# Altium schematic symbol library Schlib1.SchLib: 9 symbols
Pins are listed as number, name and electrical type; pins without a type are passive.

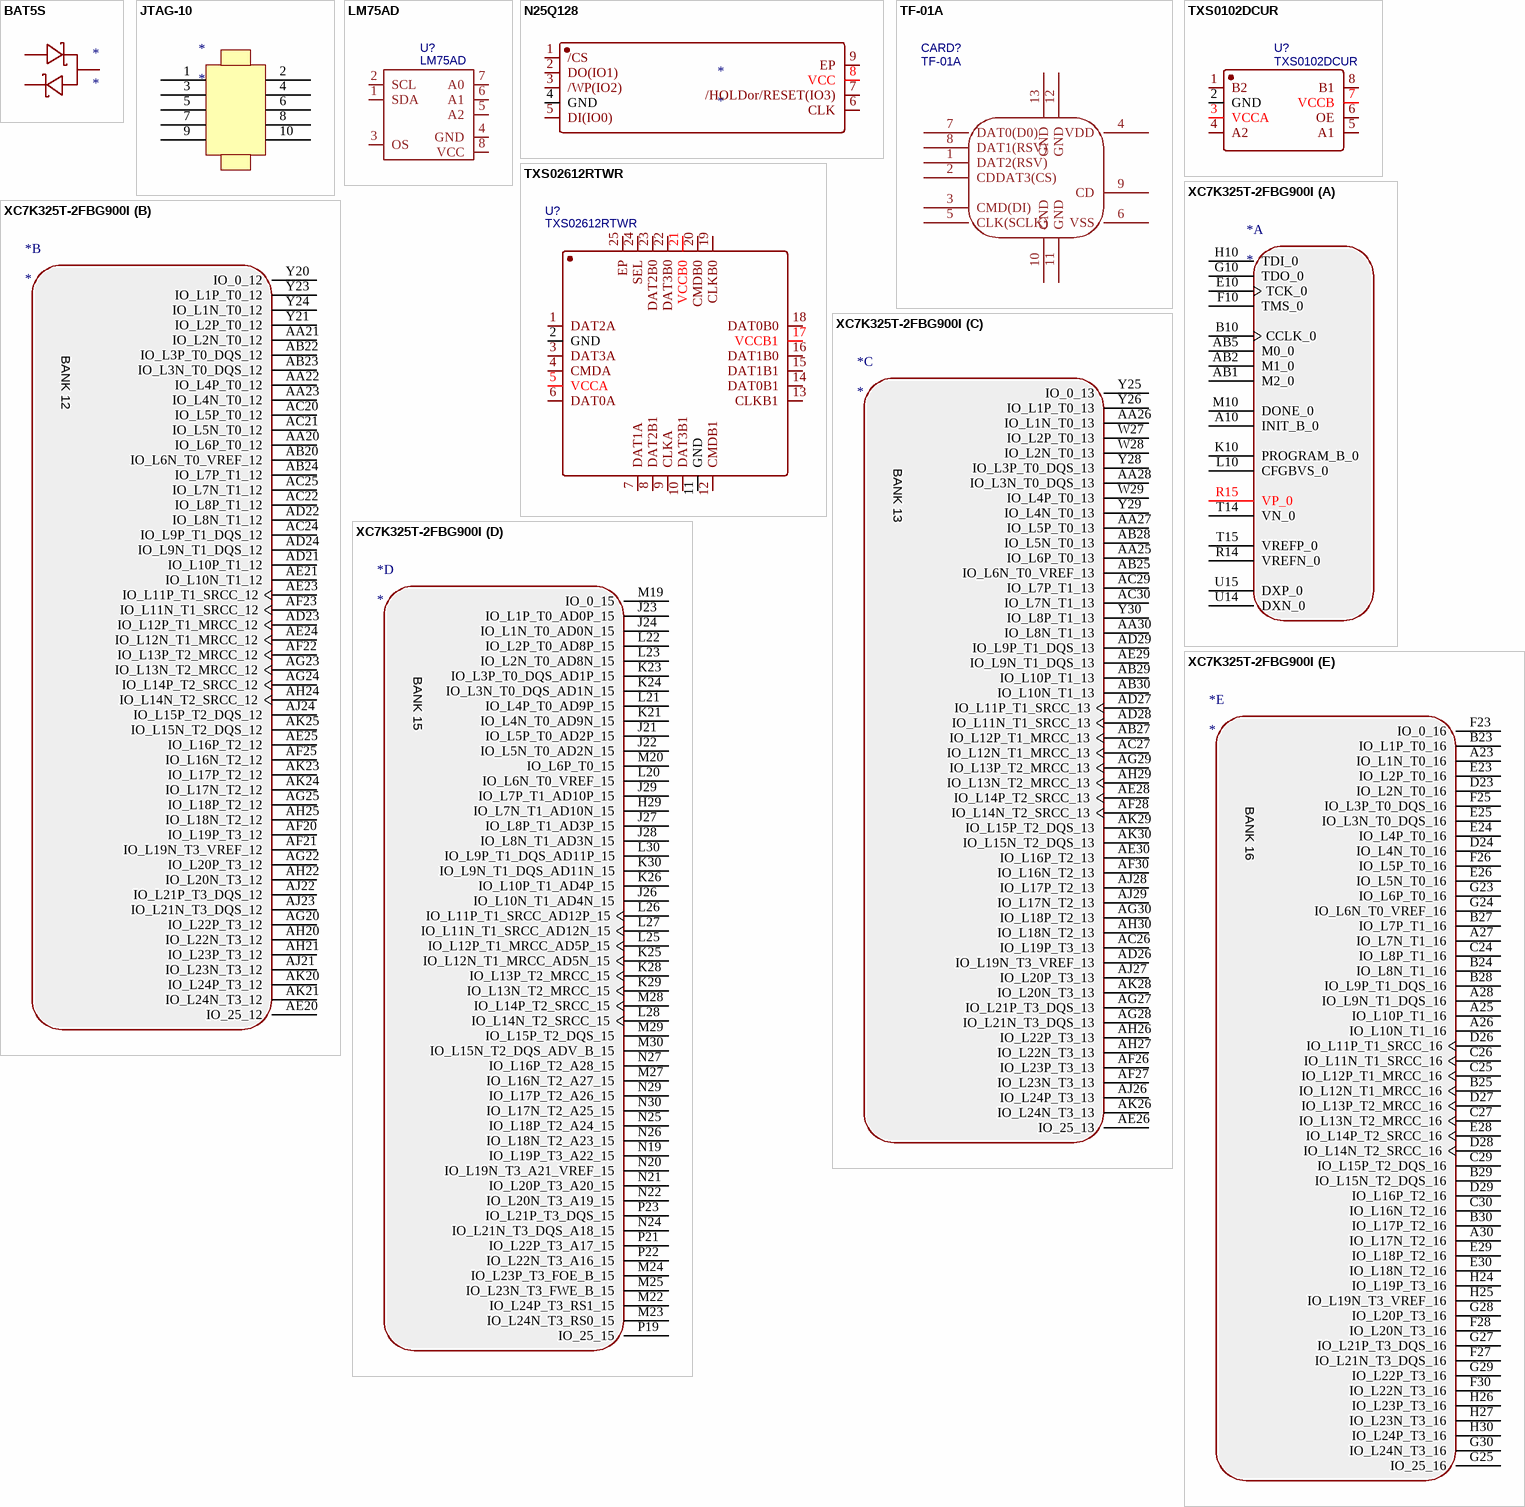
[diagram p0: symbols BAT5S to XC7K325T-2FBG900I]

## BAT5S
designator *
pins: 1 A1, 2 K2, 3 A

## JTAG-10
designator *
pins: 1, 2, 3, 4, 5, 6, 7, 8, 9, 10

## LM75AD
designator U?
BOM_Manufacturer: NXP; SMT Type: Extend; BOM_Supplier: LCSC; BOM_Manufacturer Part: LM75AD; image: //image.lceda.cn/szlcsc/C7963.jpg; BOM_Supplier Part: C7963; BOM_LCSC Assembly: Yes; spicePre: U; spiceSymbolName: LM75AD
footprint SOIC-8_150MIL
pins: 1 SDA, 2 SCL, 3 OS, 4 GND, 5 A2, 6 A1, 7 A0, 8 VCC

## N25Q128
designator *
pins: 1 /CS, 2 DO(IO1), 3 /WP(IO2), 4 GND, 5 DI(IO0), 6 CLK, 7 /HOLDor/RESET(IO3), 8 VCC, 9 EP

## TF-01A
designator CARD?
BOM_Manufacturer: HRO; BOM_Supplier: LCSC; BOM_Manufacturer Part: TF-01A; BOM_Supplier Part: C91145; spicePre: C; spiceSymbolName: TF-01A
footprint TF-SMD_TF-01A
pins: 1 DAT2(RSV), 2 CDDAT3(CS), 3 CMD(DI), 4 VDD, 5 CLK(SCLK), 6 VSS, 7 DAT0(D0), 8 DAT1(RSV), 9 CD, 10 GND, 11 GND, 12 GND, 13 GND

## TXS0102DCUR
designator U?
BOM_Manufacturer: TI; BOM_Supplier: LCSC; BOM_Manufacturer Part: TXS0102DCUR; image: //image.lceda.cn/szlcsc/C53434.jpg; BOM_Supplier Part: C53434; spicePre: U; spiceSymbolName: TXS0102DCUR
footprint US-8_L2.4-W2.1-P0.50-LS3.2-BR
pins: 1 B2, 2 GND, 3 VCCA, 4 A2, 5 A1, 6 OE, 7 VCCB, 8 B1

## TXS02612RTWR
designator U?
BOM_Manufacturer: Texas Instruments; Contributor: LCSC; BOM_Supplier: LCSC; BOM_Supplier Part: C140276; BOM_Manufacturer Part: TXS02612RTWR; spicePre: U; spiceSymbolName: TXS02612RTWR
footprint WQFN-24_L4.0-W4.0-P0.50-BL-EP
pins: 1 DAT2A, 2 GND, 3 DAT3A, 4 CMDA, 5 VCCA, 6 DAT0A, 7 DAT1A, 8 DAT2B1, 9 CLKA, 10 DAT3B1, 11 GND, 12 CMDB1, 13 CLKB1, 14 DAT0B1, 15 DAT1B1, 16 DAT1B0, 17 VCCB1, 18 DAT0B0, 19 CLKB0, 20 CMDB0, 21 VCCB0, 22 DAT3B0, 23 DAT2B0, 24 SEL, 25 EP

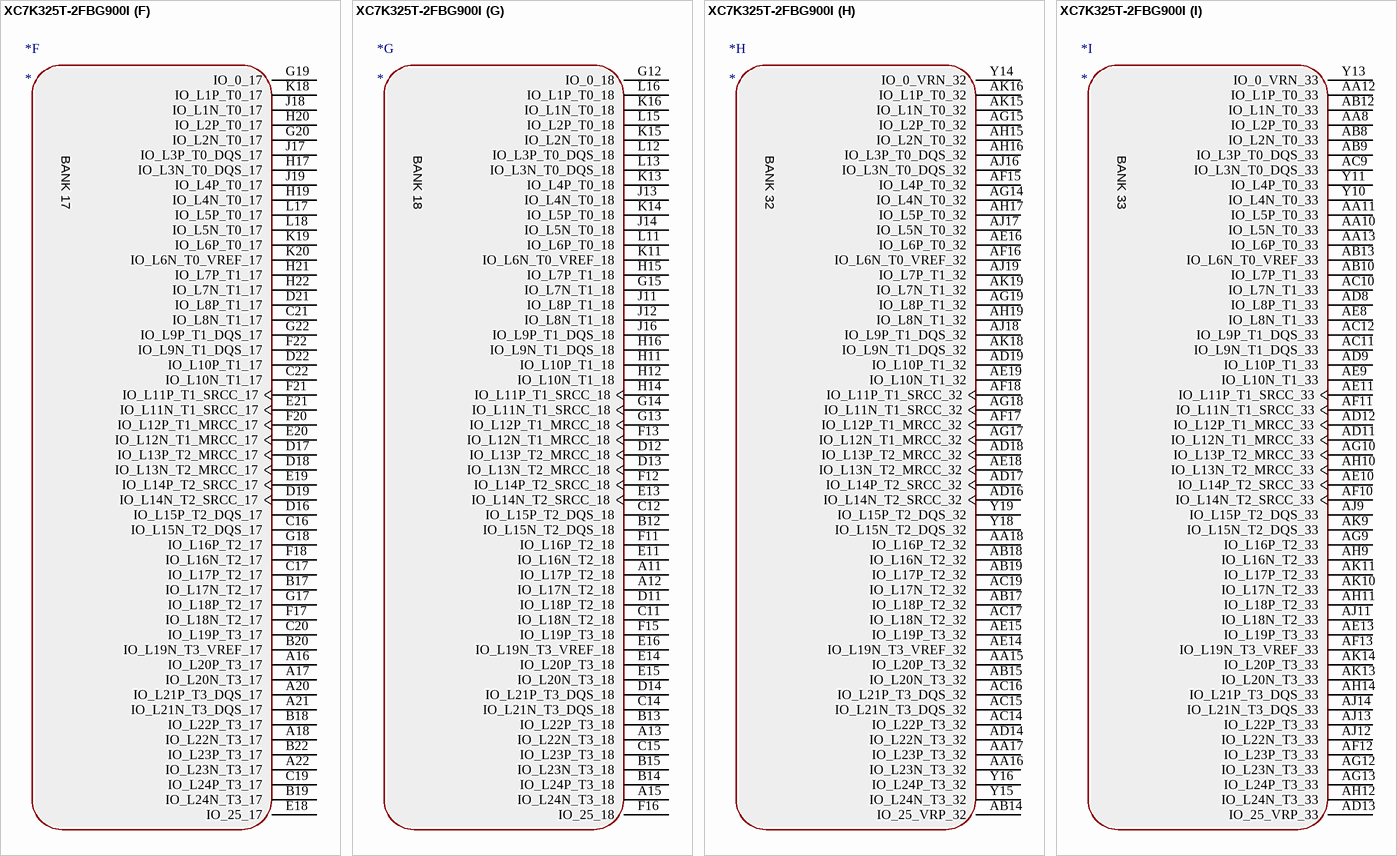
[diagram p1: symbol XC7K325T-2FBG900I]

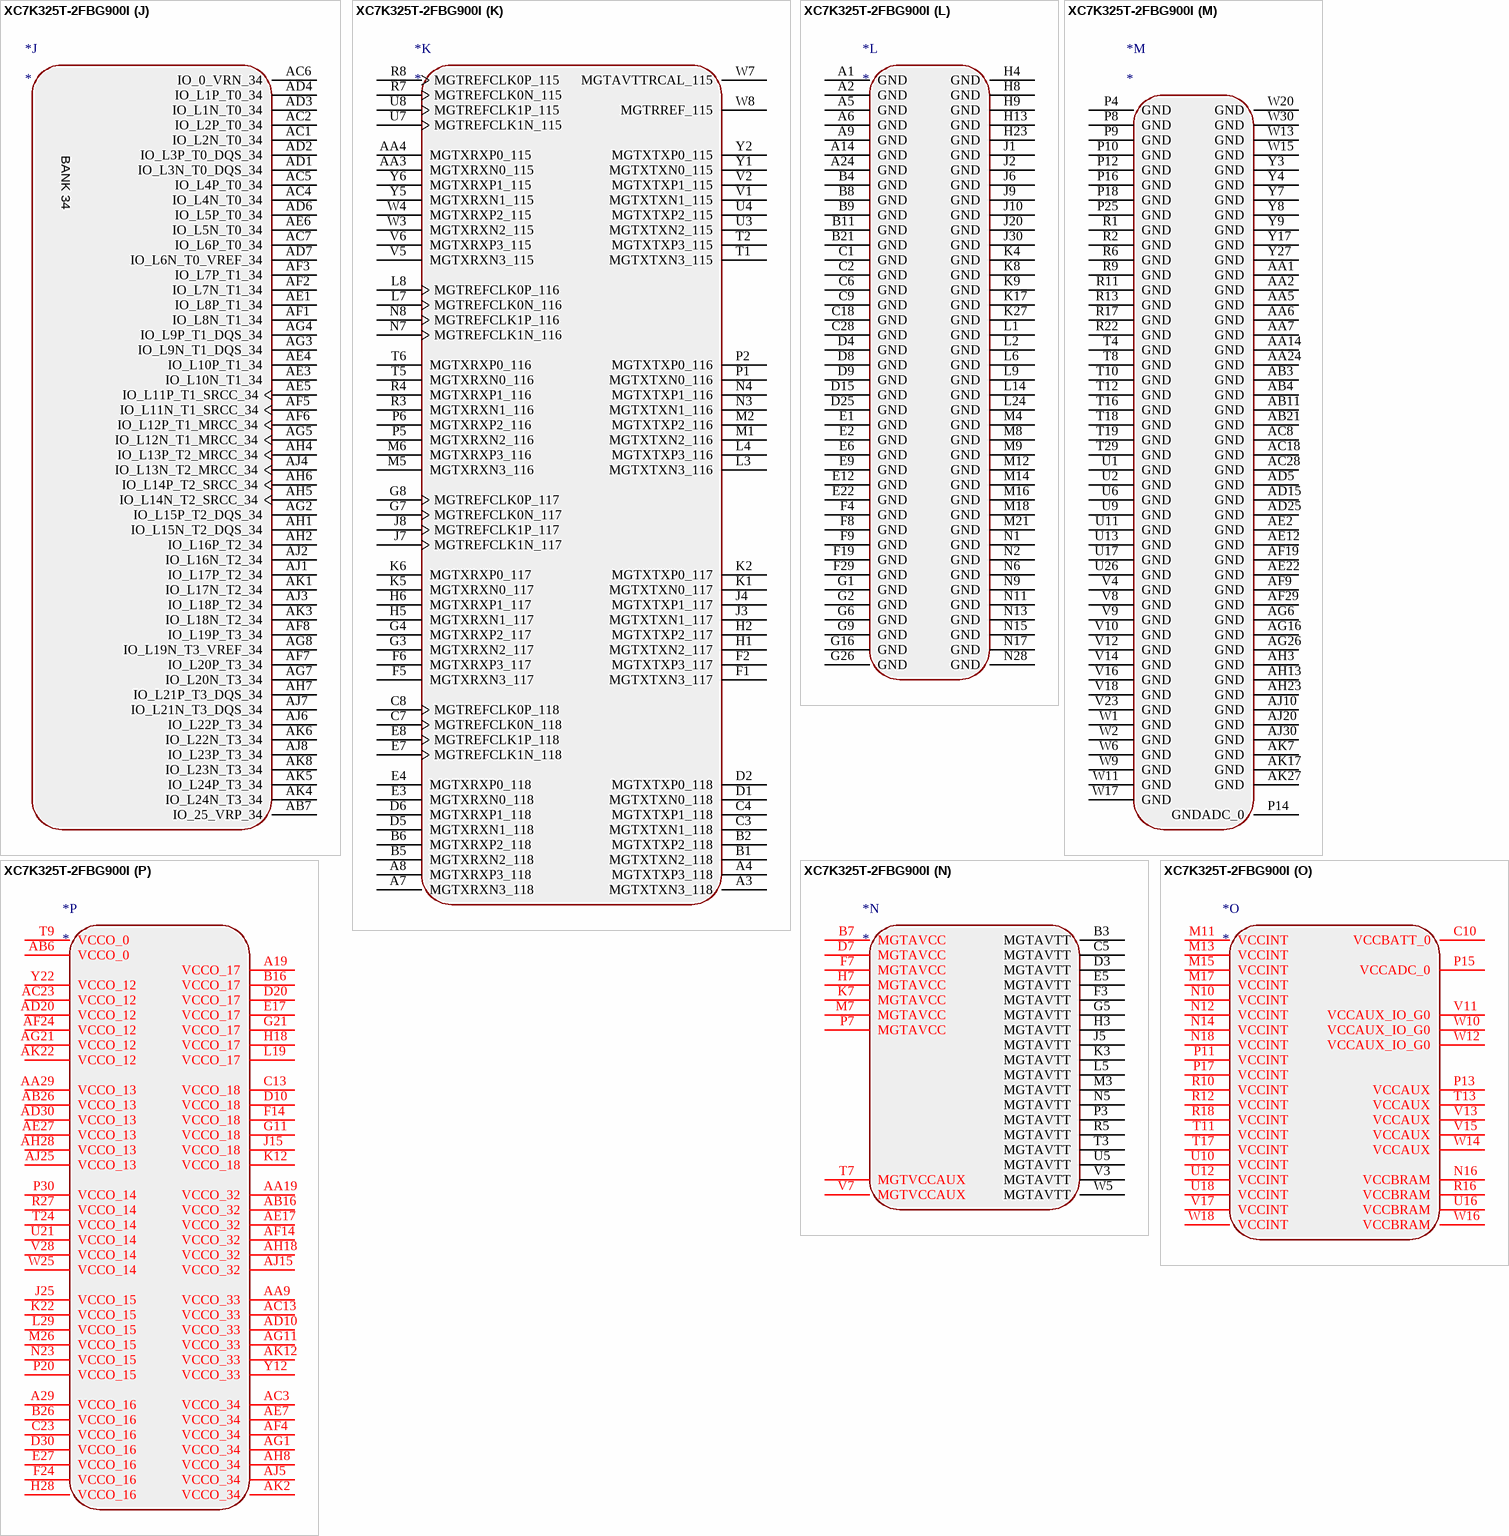
[diagram p2: symbol XC7K325T-2FBG900I]

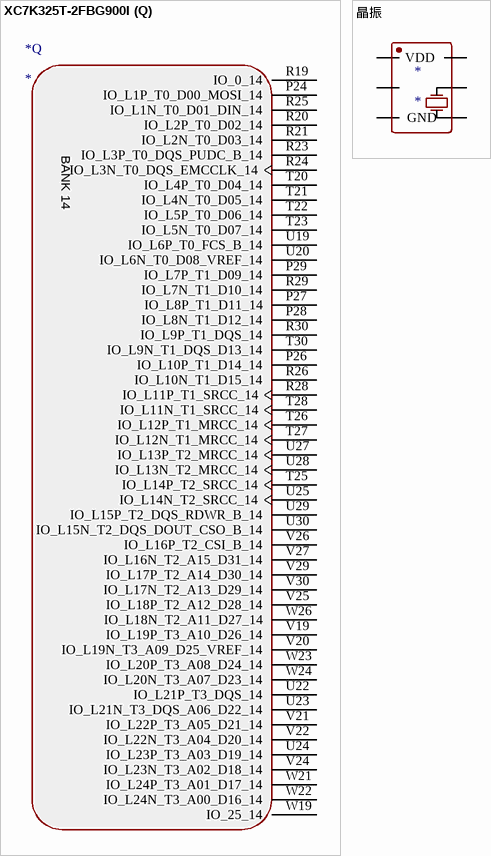
[diagram p3: symbols XC7K325T-2FBG900I to 晶振]

## XC7K325T-2FBG900I
designator *
footprint FBG900
part A pins: A10 INIT_B_0, AB1 M2_0, AB2 M1_0, AB5 M0_0, B10 CCLK_0, E10 TCK_0, F10 TMS_0, G10 TDO_0, H10 TDI_0, K10 PROGRAM_B_0, L10 CFGBVS_0, M10 DONE_0, R14 VREFN_0, R15 VP_0, T14 VN_0, T15 VREFP_0, U14 DXN_0, U15 DXP_0
part B pins: AA20 IO_L6P_T0_12, AA21 IO_L2N_T0_12, AA22 IO_L4P_T0_12, AA23 IO_L4N_T0_12, AB20 IO_L6N_T0_VREF_12, AB22 IO_L3P_T0_DQS_12, AB23 IO_L3N_T0_DQS_12, AB24 IO_L7P_T1_12, AC20 IO_L5P_T0_12, AC21 IO_L5N_T0_12, AC22 IO_L8P_T1_12, AC24 IO_L9P_T1_DQS_12, AC25 IO_L7N_T1_12, AD21 IO_L10P_T1_12, AD22 IO_L8N_T1_12, AD23 IO_L12P_T1_MRCC_12, AD24 IO_L9N_T1_DQS_12, AE20 IO_25_12, AE21 IO_L10N_T1_12, AE23 IO_L11P_T1_SRCC_12, AE24 IO_L12N_T1_MRCC_12, AE25 IO_L16P_T2_12, AF20 IO_L19P_T3_12, AF21 IO_L19N_T3_VREF_12, AF22 IO_L13P_T2_MRCC_12, AF23 IO_L11N_T1_SRCC_12, AF25 IO_L16N_T2_12, AG20 IO_L22P_T3_12, AG22 IO_L20P_T3_12, AG23 IO_L13N_T2_MRCC_12, AG24 IO_L14P_T2_SRCC_12, AG25 IO_L18P_T2_12, AH20 IO_L22N_T3_12, AH21 IO_L23P_T3_12, AH22 IO_L20N_T3_12, AH24 IO_L14N_T2_SRCC_12, AH25 IO_L18N_T2_12, AJ21 IO_L23N_T3_12, AJ22 IO_L21P_T3_DQS_12, AJ23 IO_L21N_T3_DQS_12, AJ24 IO_L15P_T2_DQS_12, AK20 IO_L24P_T3_12, AK21 IO_L24N_T3_12, AK23 IO_L17P_T2_12, AK24 IO_L17N_T2_12, AK25 IO_L15N_T2_DQS_12, Y20 IO_0_12, Y21 IO_L2P_T0_12, Y23 IO_L1P_T0_12, Y24 IO_L1N_T0_12
part C pins: AA25 IO_L6P_T0_13, AA26 IO_L1N_T0_13, AA27 IO_L5P_T0_13, AA28 IO_L3N_T0_DQS_13, AA30 IO_L8N_T1_13, AB25 IO_L6N_T0_VREF_13, AB27 IO_L12P_T1_MRCC_13, AB28 IO_L5N_T0_13, AB29 IO_L10P_T1_13, AB30 IO_L10N_T1_13, AC26 IO_L19P_T3_13, AC27 IO_L12N_T1_MRCC_13, AC29 IO_L7P_T1_13, AC30 IO_L7N_T1_13, AD26 IO_L19N_T3_VREF_13, AD27 IO_L11P_T1_SRCC_13, AD28 IO_L11N_T1_SRCC_13, AD29 IO_L9P_T1_DQS_13, AE26 IO_25_13, AE28 IO_L14P_T2_SRCC_13, AE29 IO_L9N_T1_DQS_13, AE30 IO_L16P_T2_13, AF26 IO_L23P_T3_13, AF27 IO_L23N_T3_13, AF28 IO_L14N_T2_SRCC_13, AF30 IO_L16N_T2_13, AG27 IO_L21P_T3_DQS_13, AG28 IO_L21N_T3_DQS_13, AG29 IO_L13P_T2_MRCC_13, AG30 IO_L18P_T2_13, AH26 IO_L22P_T3_13, AH27 IO_L22N_T3_13, AH29 IO_L13N_T2_MRCC_13, AH30 IO_L18N_T2_13, AJ26 IO_L24P_T3_13, AJ27 IO_L20P_T3_13, AJ28 IO_L17P_T2_13, AJ29 IO_L17N_T2_13, AK26 IO_L24N_T3_13, AK28 IO_L20N_T3_13, AK29 IO_L15P_T2_DQS_13, AK30 IO_L15N_T2_DQS_13, W27 IO_L2P_T0_13, W28 IO_L2N_T0_13, W29 IO_L4P_T0_13, Y25 IO_0_13, Y26 IO_L1P_T0_13, Y28 IO_L3P_T0_DQS_13, Y29 IO_L4N_T0_13, Y30 IO_L8P_T1_13
part D pins: H29 IO_L7N_T1_AD10N_15, J21 IO_L5P_T0_AD2P_15, J22 IO_L5N_T0_AD2N_15, J23 IO_L1P_T0_AD0P_15, J24 IO_L1N_T0_AD0N_15, J26 IO_L10N_T1_AD4N_15, J27 IO_L8P_T1_AD3P_15, J28 IO_L8N_T1_AD3N_15, J29 IO_L7P_T1_AD10P_15, K21 IO_L4N_T0_AD9N_15, K23 IO_L3P_T0_DQS_AD1P_15, K24 IO_L3N_T0_DQS_AD1N_15, K25 IO_L12N_T1_MRCC_AD5N_15, K26 IO_L10P_T1_AD4P_15, K28 IO_L13P_T2_MRCC_15, K29 IO_L13N_T2_MRCC_15, K30 IO_L9N_T1_DQS_AD11N_15, L20 IO_L6N_T0_VREF_15, L21 IO_L4P_T0_AD9P_15, L22 IO_L2P_T0_AD8P_15, L23 IO_L2N_T0_AD8N_15, L25 IO_L12P_T1_MRCC_AD5P_15, L26 IO_L11P_T1_SRCC_AD12P_15, L27 IO_L11N_T1_SRCC_AD12N_15, L28 IO_L14N_T2_SRCC_15, L30 IO_L9P_T1_DQS_AD11P_15, M19 IO_0_15, M20 IO_L6P_T0_15, M22 IO_L24P_T3_RS1_15, M23 IO_L24N_T3_RS0_15, M24 IO_L23P_T3_FOE_B_15, M25 IO_L23N_T3_FWE_B_15, M27 IO_L16N_T2_A27_15, M28 IO_L14P_T2_SRCC_15, M29 IO_L15P_T2_DQS_15, M30 IO_L15N_T2_DQS_ADV_B_15, N19 IO_L19P_T3_A22_15, N20 IO_L19N_T3_A21_VREF_15, N21 IO_L20P_T3_A20_15, N22 IO_L20N_T3_A19_15, N24 IO_L21N_T3_DQS_A18_15, N25 IO_L18P_T2_A24_15, N26 IO_L18N_T2_A23_15, N27 IO_L16P_T2_A28_15, N29 IO_L17P_T2_A26_15, N30 IO_L17N_T2_A25_15, P19 IO_25_15, P21 IO_L22P_T3_A17_15, P22 IO_L22N_T3_A16_15, P23 IO_L21P_T3_DQS_15
part E pins: A23 IO_L1N_T0_16, A25 IO_L10P_T1_16, A26 IO_L10N_T1_16, A27 IO_L7N_T1_16, A28 IO_L9N_T1_DQS_16, A30 IO_L17N_T2_16, B23 IO_L1P_T0_16, B24 IO_L8N_T1_16, B25 IO_L12N_T1_MRCC_16, B27 IO_L7P_T1_16, B28 IO_L9P_T1_DQS_16, B29 IO_L15N_T2_DQS_16, B30 IO_L17P_T2_16, C24 IO_L8P_T1_16, C25 IO_L12P_T1_MRCC_16, C26 IO_L11N_T1_SRCC_16, C27 IO_L13N_T2_MRCC_16, C29 IO_L15P_T2_DQS_16, C30 IO_L16N_T2_16, D23 IO_L2N_T0_16, D24 IO_L4N_T0_16, D26 IO_L11P_T1_SRCC_16, D27 IO_L13P_T2_MRCC_16, D28 IO_L14N_T2_SRCC_16, D29 IO_L16P_T2_16, E23 IO_L2P_T0_16, E24 IO_L4P_T0_16, E25 IO_L3N_T0_DQS_16, E26 IO_L5N_T0_16, E28 IO_L14P_T2_SRCC_16, E29 IO_L18P_T2_16, E30 IO_L18N_T2_16, F23 IO_0_16, F25 IO_L3P_T0_DQS_16, F26 IO_L5P_T0_16, F27 IO_L21N_T3_DQS_16, F28 IO_L20N_T3_16, F30 IO_L22N_T3_16, G23 IO_L6P_T0_16, G24 IO_L6N_T0_VREF_16, G25 IO_25_16, G27 IO_L21P_T3_DQS_16, G28 IO_L20P_T3_16, G29 IO_L22P_T3_16, G30 IO_L24N_T3_16, H24 IO_L19P_T3_16, H25 IO_L19N_T3_VREF_16, H26 IO_L23P_T3_16, H27 IO_L23N_T3_16, H30 IO_L24P_T3_16
part F pins: A16 IO_L20P_T3_17, A17 IO_L20N_T3_17, A18 IO_L22N_T3_17, A20 IO_L21P_T3_DQS_17, A21 IO_L21N_T3_DQS_17, A22 IO_L23N_T3_17, B17 IO_L17N_T2_17, B18 IO_L22P_T3_17, B19 IO_L24N_T3_17, B20 IO_L19N_T3_VREF_17, B22 IO_L23P_T3_17, C16 IO_L15N_T2_DQS_17, C17 IO_L17P_T2_17, C19 IO_L24P_T3_17, C20 IO_L19P_T3_17, C21 IO_L8N_T1_17, C22 IO_L10N_T1_17, D16 IO_L15P_T2_DQS_17, D17 IO_L13P_T2_MRCC_17, D18 IO_L13N_T2_MRCC_17, D19 IO_L14N_T2_SRCC_17, D21 IO_L8P_T1_17, D22 IO_L10P_T1_17, E18 IO_25_17, E19 IO_L14P_T2_SRCC_17, E20 IO_L12N_T1_MRCC_17, E21 IO_L11N_T1_SRCC_17, F17 IO_L18N_T2_17, F18 IO_L16N_T2_17, F20 IO_L12P_T1_MRCC_17, F21 IO_L11P_T1_SRCC_17, F22 IO_L9N_T1_DQS_17, G17 IO_L18P_T2_17, G18 IO_L16P_T2_17, G19 IO_0_17, G20 IO_L2N_T0_17, G22 IO_L9P_T1_DQS_17, H17 IO_L3N_T0_DQS_17, H19 IO_L4N_T0_17, H20 IO_L2P_T0_17, H21 IO_L7P_T1_17, H22 IO_L7N_T1_17, J17 IO_L3P_T0_DQS_17, J18 IO_L1N_T0_17, J19 IO_L4P_T0_17, K18 IO_L1P_T0_17, K19 IO_L6P_T0_17, K20 IO_L6N_T0_VREF_17, L17 IO_L5P_T0_17, L18 IO_L5N_T0_17
part G pins: A11 IO_L17P_T2_18, A12 IO_L17N_T2_18, A13 IO_L22N_T3_18, A15 IO_L24N_T3_18, B12 IO_L15N_T2_DQS_18, B13 IO_L22P_T3_18, B14 IO_L24P_T3_18, B15 IO_L23N_T3_18, C11 IO_L18N_T2_18, C12 IO_L15P_T2_DQS_18, C14 IO_L21N_T3_DQS_18, C15 IO_L23P_T3_18, D11 IO_L18P_T2_18, D12 IO_L13P_T2_MRCC_18, D13 IO_L13N_T2_MRCC_18, D14 IO_L21P_T3_DQS_18, E11 IO_L16N_T2_18, E13 IO_L14N_T2_SRCC_18, E14 IO_L20P_T3_18, E15 IO_L20N_T3_18, E16 IO_L19N_T3_VREF_18, F11 IO_L16P_T2_18, F12 IO_L14P_T2_SRCC_18, F13 IO_L12N_T1_MRCC_18, F15 IO_L19P_T3_18, F16 IO_25_18, G12 IO_0_18, G13 IO_L12P_T1_MRCC_18, G14 IO_L11N_T1_SRCC_18, G15 IO_L7N_T1_18, H11 IO_L10P_T1_18, H12 IO_L10N_T1_18, H14 IO_L11P_T1_SRCC_18, H15 IO_L7P_T1_18, H16 IO_L9N_T1_DQS_18, J11 IO_L8P_T1_18, J12 IO_L8N_T1_18, J13 IO_L4N_T0_18, J14 IO_L5N_T0_18, J16 IO_L9P_T1_DQS_18, K11 IO_L6N_T0_VREF_18, K13 IO_L4P_T0_18, K14 IO_L5P_T0_18, K15 IO_L2N_T0_18, K16 IO_L1N_T0_18, L11 IO_L6P_T0_18, L12 IO_L3P_T0_DQS_18, L13 IO_L3N_T0_DQS_18, L15 IO_L2P_T0_18, L16 IO_L1P_T0_18
part H pins: AA15 IO_L20P_T3_32, AA16 IO_L23N_T3_32, AA17 IO_L23P_T3_32, AA18 IO_L16P_T2_32, AB14 IO_25_VRP_32, AB15 IO_L20N_T3_32, AB17 IO_L18P_T2_32, AB18 IO_L16N_T2_32, AB19 IO_L17P_T2_32, AC14 IO_L22P_T3_32, AC15 IO_L21N_T3_DQS_32, AC16 IO_L21P_T3_DQS_32, AC17 IO_L18N_T2_32, AC19 IO_L17N_T2_32, AD14 IO_L22N_T3_32, AD16 IO_L14N_T2_SRCC_32, AD17 IO_L14P_T2_SRCC_32, AD18 IO_L13P_T2_MRCC_32, AD19 IO_L10P_T1_32, AE14 IO_L19N_T3_VREF_32, AE15 IO_L19P_T3_32, AE16 IO_L6P_T0_32, AE18 IO_L13N_T2_MRCC_32, AE19 IO_L10N_T1_32, AF15 IO_L4P_T0_32, AF16 IO_L6N_T0_VREF_32, AF17 IO_L12P_T1_MRCC_32, AF18 IO_L11P_T1_SRCC_32, AG14 IO_L4N_T0_32, AG15 IO_L2P_T0_32, AG17 IO_L12N_T1_MRCC_32, AG18 IO_L11N_T1_SRCC_32, AG19 IO_L8P_T1_32, AH15 IO_L2N_T0_32, AH16 IO_L3P_T0_DQS_32, AH17 IO_L5P_T0_32, AH19 IO_L8N_T1_32, AJ16 IO_L3N_T0_DQS_32, AJ17 IO_L5N_T0_32, AJ18 IO_L9P_T1_DQS_32, AJ19 IO_L7P_T1_32, AK15 IO_L1N_T0_32, AK16 IO_L1P_T0_32, AK18 IO_L9N_T1_DQS_32, AK19 IO_L7N_T1_32, Y14 IO_0_VRN_32, Y15 IO_L24N_T3_32, Y16 IO_L24P_T3_32, Y18 IO_L15N_T2_DQS_32, Y19 IO_L15P_T2_DQS_32
part I pins: AA8 IO_L2P_T0_33, AA10 IO_L5N_T0_33, AA11 IO_L5P_T0_33, AA12 IO_L1P_T0_33, AA13 IO_L6P_T0_33, AB8 IO_L2N_T0_33, AB9 IO_L3P_T0_DQS_33, AB10 IO_L7P_T1_33, AB12 IO_L1N_T0_33, AB13 IO_L6N_T0_VREF_33, AC9 IO_L3N_T0_DQS_33, AC10 IO_L7N_T1_33, AC11 IO_L9N_T1_DQS_33, AC12 IO_L9P_T1_DQS_33, AD8 IO_L8P_T1_33, AD9 IO_L10P_T1_33, AD11 IO_L12N_T1_MRCC_33, AD12 IO_L12P_T1_MRCC_33, AD13 IO_25_VRP_33, AE8 IO_L8N_T1_33, AE9 IO_L10N_T1_33, AE10 IO_L14P_T2_SRCC_33, AE11 IO_L11P_T1_SRCC_33, AE13 IO_L19P_T3_33, AF10 IO_L14N_T2_SRCC_33, AF11 IO_L11N_T1_SRCC_33, AF12 IO_L23P_T3_33, AF13 IO_L19N_T3_VREF_33, AG9 IO_L16P_T2_33, AG10 IO_L13P_T2_MRCC_33, AG12 IO_L23N_T3_33, AG13 IO_L24P_T3_33, AH9 IO_L16N_T2_33, AH10 IO_L13N_T2_MRCC_33, AH11 IO_L18P_T2_33, AH12 IO_L24N_T3_33, AH14 IO_L21P_T3_DQS_33, AJ9 IO_L15P_T2_DQS_33, AJ11 IO_L18N_T2_33, AJ12 IO_L22N_T3_33, AJ13 IO_L22P_T3_33, AJ14 IO_L21N_T3_DQS_33, AK9 IO_L15N_T2_DQS_33, AK10 IO_L17N_T2_33, AK11 IO_L17P_T2_33, AK13 IO_L20N_T3_33, AK14 IO_L20P_T3_33, Y10 IO_L4N_T0_33, Y11 IO_L4P_T0_33, Y13 IO_0_VRN_33
part J pins: AB7 IO_25_VRP_34, AC1 IO_L2N_T0_34, AC2 IO_L2P_T0_34, AC4 IO_L4N_T0_34, AC5 IO_L4P_T0_34, AC6 IO_0_VRN_34, AC7 IO_L6P_T0_34, AD1 IO_L3N_T0_DQS_34, AD2 IO_L3P_T0_DQS_34, AD3 IO_L1N_T0_34, AD4 IO_L1P_T0_34, AD6 IO_L5P_T0_34, AD7 IO_L6N_T0_VREF_34, AE1 IO_L8P_T1_34, AE3 IO_L10N_T1_34, AE4 IO_L10P_T1_34, AE5 IO_L11P_T1_SRCC_34, AE6 IO_L5N_T0_34, AF1 IO_L8N_T1_34, AF2 IO_L7N_T1_34, AF3 IO_L7P_T1_34, AF5 IO_L11N_T1_SRCC_34, AF6 IO_L12P_T1_MRCC_34, AF7 IO_L20P_T3_34, AF8 IO_L19P_T3_34, AG2 IO_L15P_T2_DQS_34, AG3 IO_L9N_T1_DQS_34, AG4 IO_L9P_T1_DQS_34, AG5 IO_L12N_T1_MRCC_34, AG7 IO_L20N_T3_34, AG8 IO_L19N_T3_VREF_34, AH1 IO_L15N_T2_DQS_34, AH2 IO_L16P_T2_34, AH4 IO_L13P_T2_MRCC_34, AH5 IO_L14N_T2_SRCC_34, AH6 IO_L14P_T2_SRCC_34, AH7 IO_L21P_T3_DQS_34, AJ1 IO_L17P_T2_34, AJ2 IO_L16N_T2_34, AJ3 IO_L18P_T2_34, AJ4 IO_L13N_T2_MRCC_34, AJ6 IO_L22P_T3_34, AJ7 IO_L21N_T3_DQS_34, AJ8 IO_L23P_T3_34, AK1 IO_L17N_T2_34, AK3 IO_L18N_T2_34, AK4 IO_L24N_T3_34, AK5 IO_L24P_T3_34, AK6 IO_L22N_T3_34, AK8 IO_L23N_T3_34
part K pins: A3 MGTXTXN3_118, A4 MGTXTXP3_118, A7 MGTXRXN3_118, A8 MGTXRXP3_118, AA3 MGTXRXN0_115, AA4 MGTXRXP0_115, B1 MGTXTXN2_118, B2 MGTXTXP2_118, B5 MGTXRXN2_118, B6 MGTXRXP2_118, C3 MGTXTXN1_118, C4 MGTXTXP1_118, C7 MGTREFCLK0N_118, C8 MGTREFCLK0P_118, D1 MGTXTXN0_118, D2 MGTXTXP0_118, D5 MGTXRXN1_118, D6 MGTXRXP1_118, E3 MGTXRXN0_118, E4 MGTXRXP0_118, E7 MGTREFCLK1N_118, E8 MGTREFCLK1P_118, F1 MGTXTXN3_117, F2 MGTXTXP3_117, F5 MGTXRXN3_117, F6 MGTXRXP3_117, G3 MGTXRXN2_117, G4 MGTXRXP2_117, G7 MGTREFCLK0N_117, G8 MGTREFCLK0P_117, H1 MGTXTXN2_117, H2 MGTXTXP2_117, H5 MGTXRXN1_117, H6 MGTXRXP1_117, J3 MGTXTXN1_117, J4 MGTXTXP1_117, J7 MGTREFCLK1N_117, J8 MGTREFCLK1P_117, K1 MGTXTXN0_117, K2 MGTXTXP0_117, K5 MGTXRXN0_117, K6 MGTXRXP0_117, L3 MGTXTXN3_116, L4 MGTXTXP3_116, L7 MGTREFCLK0N_116, L8 MGTREFCLK0P_116, M1 MGTXTXN2_116, M2 MGTXTXP2_116, M5 MGTXRXN3_116, M6 MGTXRXP3_116, N3 MGTXTXN1_116, N4 MGTXTXP1_116, N7 MGTREFCLK1N_116, N8 MGTREFCLK1P_116, P1 MGTXTXN0_116, P2 MGTXTXP0_116, P5 MGTXRXN2_116, P6 MGTXRXP2_116, R3 MGTXRXN1_116, R4 MGTXRXP1_116, R7 MGTREFCLK0N_115, R8 MGTREFCLK0P_115, T1 MGTXTXN3_115, T2 MGTXTXP3_115, T5 MGTXRXN0_116, T6 MGTXRXP0_116, U3 MGTXTXN2_115, U4 MGTXTXP2_115, U7 MGTREFCLK1N_115, U8 MGTREFCLK1P_115, V1 MGTXTXN1_115, V2 MGTXTXP1_115, V5 MGTXRXN3_115, V6 MGTXRXP3_115, W3 MGTXRXN2_115, W4 MGTXRXP2_115, W7 MGTAVTTRCAL_115, W8 MGTRREF_115, Y1 MGTXTXN0_115, Y2 MGTXTXP0_115, Y5 MGTXRXN1_115, Y6 MGTXRXP1_115
part L pins: A1 GND, A2 GND, A5 GND, A6 GND, A9 GND, A14 GND, A24 GND, B4 GND, B8 GND, B9 GND, B11 GND, B21 GND, C1 GND, C2 GND, C6 GND, C9 GND, C18 GND, C28 GND, D4 GND, D8 GND, D9 GND, D15 GND, D25 GND, E1 GND, E2 GND, E6 GND, E9 GND, E12 GND, E22 GND, F4 GND, F8 GND, F9 GND, F19 GND, F29 GND, G1 GND, G2 GND, G6 GND, G9 GND, G16 GND, G26 GND, H4 GND, H8 GND, H9 GND, H13 GND, H23 GND, J1 GND, J2 GND, J6 GND, J9 GND, J10 GND, J20 GND, J30 GND, K4 GND, K8 GND, K9 GND, K17 GND, K27 GND, L1 GND, L2 GND, L6 GND, L9 GND, L14 GND, L24 GND, M4 GND, M8 GND, M9 GND, M12 GND, M14 GND, M16 GND, M18 GND, M21 GND, N1 GND, N2 GND, N6 GND, N9 GND, N11 GND, N13 GND, N15 GND, N17 GND, N28 GND
part M pins: AA1 GND, AA2 GND, AA5 GND, AA6 GND, AA7 GND, AA14 GND, AA24 GND, AB3 GND, AB4 GND, AB11 GND, AB21 GND, AC8 GND, AC18 GND, AC28 GND, AD5 GND, AD15 GND, AD25 GND, AE2 GND, AE12 GND, AE22 GND, AF9 GND, AF19 GND, AF29 GND, AG6 GND, AG16 GND, AG26 GND, AH3 GND, AH13 GND, AH23 GND, AJ10 GND, AJ20 GND, AJ30 GND, AK7 GND, AK17 GND, AK27 GND, P4 GND, P8 GND, P9 GND, P10 GND, P12 GND, P14 GNDADC_0, P16 GND, P18 GND, P25 GND, R1 GND, R2 GND, R6 GND, R9 GND, R11 GND, R13 GND, R17 GND, R22 GND, T4 GND, T8 GND, T10 GND, T12 GND, T16 GND, T18 GND, T19 GND, T29 GND, U1 GND, U2 GND, U6 GND, U9 GND, U11 GND, U13 GND, U17 GND, U26 GND, V4 GND, V8 GND, V9 GND, V10 GND, V12 GND, V14 GND, V16 GND, V18 GND, V23 GND, W1 GND, W2 GND, W6 GND, W9 GND, W11 GND, W13 GND, W15 GND, W17 GND, W20 GND, W30 GND, Y3 GND, Y4 GND, Y7 GND, Y8 GND, Y9 GND, Y17 GND, Y27 GND
part N pins: B3 MGTAVTT, B7 MGTAVCC, C5 MGTAVTT, D3 MGTAVTT, D7 MGTAVCC, E5 MGTAVTT, F3 MGTAVTT, F7 MGTAVCC, G5 MGTAVTT, H3 MGTAVTT, H7 MGTAVCC, J5 MGTAVTT, K3 MGTAVTT, K7 MGTAVCC, L5 MGTAVTT, M3 MGTAVTT, M7 MGTAVCC, N5 MGTAVTT, P3 MGTAVTT, P7 MGTAVCC, R5 MGTAVTT, T3 MGTAVTT, T7 MGTVCCAUX, U5 MGTAVTT, V3 MGTAVTT, V7 MGTVCCAUX, W5 MGTAVTT
part O pins: C10 VCCBATT_0, M11 VCCINT, M13 VCCINT, M15 VCCINT, M17 VCCINT, N10 VCCINT, N12 VCCINT, N14 VCCINT, N16 VCCBRAM, N18 VCCINT, P11 VCCINT, P13 VCCAUX, P15 VCCADC_0, P17 VCCINT, R10 VCCINT, R12 VCCINT, R16 VCCBRAM, R18 VCCINT, T11 VCCINT, T13 VCCAUX, T17 VCCINT, U10 VCCINT, U12 VCCINT, U16 VCCBRAM, U18 VCCINT, V11 VCCAUX_IO_G0, V13 VCCAUX, V15 VCCAUX, V17 VCCINT, W10 VCCAUX_IO_G0, W12 VCCAUX_IO_G0, W14 VCCAUX, W16 VCCBRAM, W18 VCCINT
part P pins: A19 VCCO_17, A29 VCCO_16, AA9 VCCO_33, AA19 VCCO_32, AA29 VCCO_13, AB6 VCCO_0, AB16 VCCO_32, AB26 VCCO_13, AC3 VCCO_34, AC13 VCCO_33, AC23 VCCO_12, AD10 VCCO_33, AD20 VCCO_12, AD30 VCCO_13, AE7 VCCO_34, AE17 VCCO_32, AE27 VCCO_13, AF4 VCCO_34, AF14 VCCO_32, AF24 VCCO_12, AG1 VCCO_34, AG11 VCCO_33, AG21 VCCO_12, AH8 VCCO_34, AH18 VCCO_32, AH28 VCCO_13, AJ5 VCCO_34, AJ15 VCCO_32, AJ25 VCCO_13, AK2 VCCO_34, AK12 VCCO_33, AK22 VCCO_12, B16 VCCO_17, B26 VCCO_16, C13 VCCO_18, C23 VCCO_16, D10 VCCO_18, D20 VCCO_17, D30 VCCO_16, E17 VCCO_17, E27 VCCO_16, F14 VCCO_18, F24 VCCO_16, G11 VCCO_18, G21 VCCO_17, H18 VCCO_17, H28 VCCO_16, J15 VCCO_18, J25 VCCO_15, K12 VCCO_18, K22 VCCO_15, L19 VCCO_17, L29 VCCO_15, M26 VCCO_15, N23 VCCO_15, P20 VCCO_15, P30 VCCO_14, R27 VCCO_14, T9 VCCO_0, T24 VCCO_14, U21 VCCO_14, V28 VCCO_14, W25 VCCO_14, Y12 VCCO_33, Y22 VCCO_12
part Q pins: P24 IO_L1P_T0_D00_MOSI_14, P26 IO_L10P_T1_D14_14, P27 IO_L8P_T1_D11_14, P28 IO_L8N_T1_D12_14, P29 IO_L7P_T1_D09_14, R19 IO_0_14, R20 IO_L2P_T0_D02_14, R21 IO_L2N_T0_D03_14, R23 IO_L3P_T0_DQS_PUDC_B_14, R24 IO_L3N_T0_DQS_EMCCLK_14, R25 IO_L1N_T0_D01_DIN_14, R26 IO_L10N_T1_D15_14, R28 IO_L11P_T1_SRCC_14, R29 IO_L7N_T1_D10_14, R30 IO_L9P_T1_DQS_14, T20 IO_L4P_T0_D04_14, T21 IO_L4N_T0_D05_14, T22 IO_L5P_T0_D06_14, T23 IO_L5N_T0_D07_14, T25 IO_L14P_T2_SRCC_14, T26 IO_L12P_T1_MRCC_14, T27 IO_L12N_T1_MRCC_14, T28 IO_L11N_T1_SRCC_14, T30 IO_L9N_T1_DQS_D13_14, U19 IO_L6P_T0_FCS_B_14, U20 IO_L6N_T0_D08_VREF_14, U22 IO_L21P_T3_DQS_14, U23 IO_L21N_T3_DQS_A06_D22_14, U24 IO_L23P_T3_A03_D19_14, U25 IO_L14N_T2_SRCC_14, U27 IO_L13P_T2_MRCC_14, U28 IO_L13N_T2_MRCC_14, U29 IO_L15P_T2_DQS_RDWR_B_14, U30 IO_L15N_T2_DQS_DOUT_CSO_B_14, V19 IO_L19P_T3_A10_D26_14, V20 IO_L19N_T3_A09_D25_VREF_14, V21 IO_L22P_T3_A05_D21_14, V22 IO_L22N_T3_A04_D20_14, V24 IO_L23N_T3_A02_D18_14, V25 IO_L18P_T2_A12_D28_14, V26 IO_L16P_T2_CSI_B_14, V27 IO_L16N_T2_A15_D31_14, V29 IO_L17P_T2_A14_D30_14, V30 IO_L17N_T2_A13_D29_14, W19 IO_25_14, W21 IO_L24P_T3_A01_D17_14, W22 IO_L24N_T3_A00_D16_14, W23 IO_L20P_T3_A08_D24_14, W24 IO_L20N_T3_A07_D23_14, W26 IO_L18N_T2_A11_D27_14
part B text: BANK 12
part C text: BANK 13
part D text: BANK 15
part E text: BANK 16
part F text: BANK 17
part G text: BANK 18
part H text: BANK 32
part I text: BANK 33
part J text: BANK 34
part Q text: BANK 14

## 晶振
designator *
pins: 1 E/D, 2 E/D, 3 GND, 4, 5, 6 VDD